# Altium footprint library Connectors.PcbLib: 4 footprints
Each footprint in its own frame and in the unit in brackets; x right, y up, seen from the top. Pads: shape width x height; smd on the part's side, far side on the other; paste and mask are expansions set on the pad; w line width, h text height; cw(c..) or ccw(c..) is an arc to the next point about the centre after c.
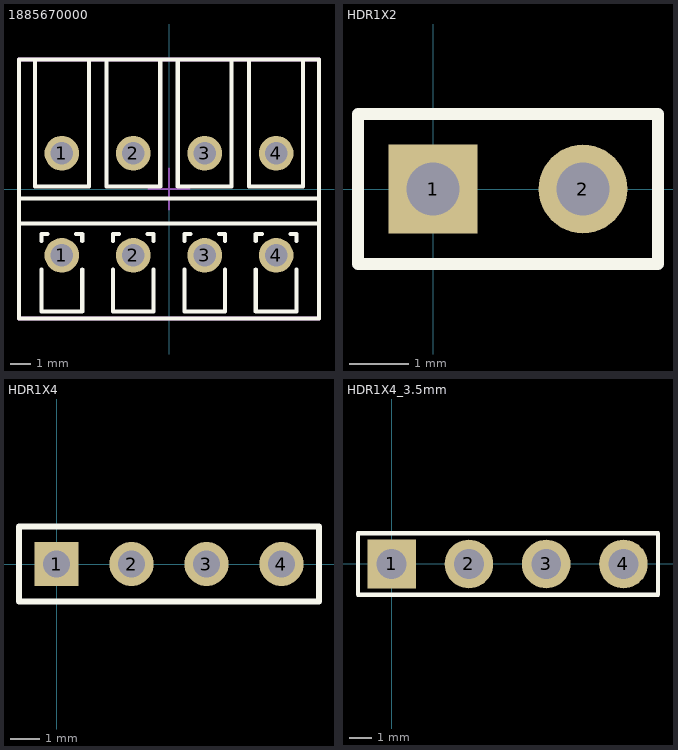
[diagram p0: the footprints below, top view; thin cyan lines are the x and y axes]

## 1885670000 [mm] "TERM BLOCK 4POS 45DEG 3.5MM PCB"
height 12.9
pads (8):
  round 1.7 hole 1.1: 1(-5.25,-3.25) 1(-5.25,1.75) 2(-1.75,-3.25) 2(-1.75,1.75) 3(1.75,-3.25) 3(1.75,1.75) 4(5.25,-3.25) 4(5.25,1.75)
Top Overlay:
  lines w0.2: -7.35,-1.691 7.35,-1.691 ; -7.35,-0.468 7.35,-0.468 ; -6.25,-3.95 -6.25,-6.013 -4.25,-6.013 -4.25,-3.95 ; -6.25,-2.55 -6.25,-2.201 -5.95,-2.201 ; -4.55,-2.201 -4.25,-2.201 -4.25,-2.55 ; -2.75,-3.95 -2.75,-6.013 -0.75,-6.013 -0.75,-3.95 ; -2.75,-2.55 -2.75,-2.201 -2.45,-2.201 ; -1.05,-2.201 -0.75,-2.201 -0.75,-2.55 ; 0.75,-3.95 0.75,-6.013 2.75,-6.013 2.75,-3.95 ; 0.75,-2.55 0.75,-2.201 1.05,-2.201 ; 2.45,-2.201 2.75,-2.201 2.75,-2.55 ; 4.25,-3.95 4.25,-6.013 6.25,-6.013 6.25,-3.95 ; 4.25,-2.55 4.25,-2.201 4.55,-2.201 ; 5.95,-2.201 6.25,-2.201 6.25,-2.55 ; -7.35,-6.35 7.35,-6.35 7.35,6.35 -7.35,6.35 -7.35,-6.35 ; -6.57,0.124 -3.93,0.124 -3.93,6.35 -6.57,6.35 -6.57,0.124 ; -3.07,0.124 -0.43,0.124 -0.43,6.35 -3.07,6.35 -3.07,0.124 ; 0.43,0.124 3.07,0.124 3.07,6.35 0.43,6.35 0.43,0.124 ; 3.93,0.124 6.57,0.124 6.57,6.35 3.93,6.35 3.93,0.124
Mechanical 15:
  lines w0.1: -1,0 1,0 ; 0,-1 0,1
  lines w0.2: -7.35,-6.35 7.35,-6.35 7.35,6.35 -7.35,6.35 -7.35,-6.35
3D body "LSF-SMT3.5_4_135_1.5_1885200000.stp": height 13.17, standoff -1.49, extent -7.35,-6.35 7.35,6.35

## HDR1X2 [mm] "Connector; Header; 2 Position"
pads (2):
  rect 1.5x1.5 hole 0.9: 1(0,0)
  round 1.5 hole 0.9: 2(2.54,0)
Top Overlay:
  lines w0.2: -1.27,-1.27 3.81,-1.27 3.81,1.27 -1.27,1.27 -1.27,-1.27

## HDR1X4 [mm] "Connector; Header; 4 Position"
pads (4):
  rect 1.5x1.5 hole 0.9: 1(0,0)
  round 1.5 hole 0.9: 2(2.54,0) 3(5.08,0) 4(7.62,0)
Top Overlay:
  lines w0.2: -1.27,-1.27 8.89,-1.27 8.89,1.27 -1.27,1.27 -1.27,-1.27

## HDR1X4_3.5mm [mm] "Connector; Header; 4 Position"
pads (4):
  rect 2.2x2.2 hole 1.35: 1(0,0)
  round 2.2 hole 1.35: 2(3.5,0) 3(7,0) 4(10.5,0)
Top Overlay:
  lines w0.2: -1.524,-1.397 -1.524,1.397 12.065,1.397 12.065,-1.397 -1.524,-1.397